# Altium schematic symbol library XT90PB-F.SchLib: 1 symbol
Pins are listed as number, name and electrical type; pins without a type are passive.

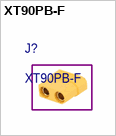
[diagram p0: symbol XT90PB-F]

## XT90PB-F
designator J?
XT90, female